# EAGLE library part 687106183722 (library Eagle_FPC_CONNECTOR_AND_FFC_CAB (rev18c))
687106183722 WR-FPC 0.50mm SMT Horizontal Bottom Contact - Low Profile <http://katalog.we-online.de/media/images/v2/Family_WR-FPC_6871xx183722.jpg> Details see: http://katalog.we-online.de/en/em/FPC_0_5_SMT_ZIF_HORIZONTAL_BOTTOM_CONTACT_LOW_PROFILE_6871xx183722 Created by Yingchun,shan 2016 (C) Wurth Elektronik
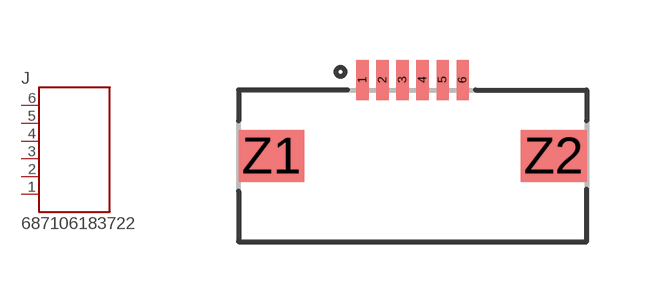
[diagram p194: symbol with the pads of 687106183722; footprint 687106183722]

Designator prefix J

## 687106183722  [687106183722]
1  6  pas
2  5  pas
3  4  pas
4  3  pas
5  2  pas
6  1  pas

## Footprint 687106183722 (pad centres in mm)
smd 0.3 x 1: 1 -1.25,1.9; 2 -0.75,1.9; 3 -0.25,1.9; 4 0.25,1.9; 5 0.75,1.9; 6 1.25,1.9
smd 1.65 x 1.3: Z1 -3.525,0; Z2 3.525,0